# Altium schematic symbol library SRes_KOA_PSG4NTEBL500F_500uOhm.SchLib: 1 symbol
Pins are listed as number, name and electrical type; pins without a type are passive.

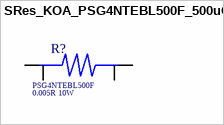
[diagram p0: symbol SRes_KOA_PSG4NTEBL500F_500uOhm]

## SRes_KOA_PSG4NTEBL500F_500uOhm
designator R?  Series: PSG4NTEBL500F  Resistance: 0.005R  Power Rating: 10W  (hidden comment: SRes_KOA_PSG4NTEBL500F_500uOhm)
Current Sense Resistors - SMD 0.5mOhm 10W 1% 50ppm AEC-Q200 Power Shunt; Supplier 1: Mouser; Supplier Part Number 1: 660-PSG4NTEBL500F
footprint SRes_KOA_PSG4NTEBL500F_500uOhm
pins: 1, 2, 3, 4